# Altium schematic symbol library SCH - DRIVER - LED - TI TLC5951_RHA_40.SchLib: 1 symbol
Pins are listed as number, name and electrical type; pins without a type are passive.

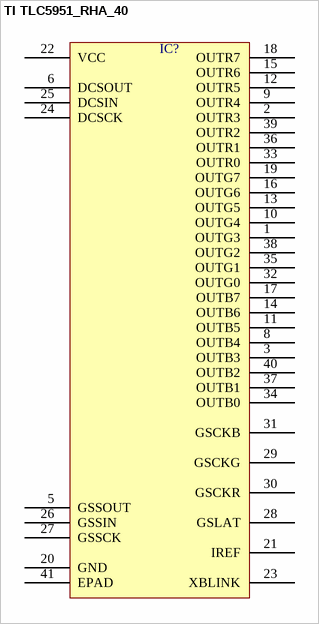
[diagram p0: symbol TI TLC5951_RHA_40]

## TI TLC5951_RHA_40
designator IC?  (value not drawn)
pins: 1 OUTG3, 2 OUTR3, 3 OUTB3, 5 GSSOUT, 6 DCSOUT, 8 OUTB4, 9 OUTR4, 10 OUTG4, 11 OUTB5, 12 OUTR5, 13 OUTG5, 14 OUTB6, 15 OUTR6, 16 OUTG6, 17 OUTB7, 18 OUTR7, 19 OUTG7, 20 GND, 21 IREF, 22 VCC, 23 XBLINK, 24 DCSCK, 25 DCSIN, 26 GSSIN, 27 GSSCK, 28 GSLAT, 29 GSCKG, 30 GSCKR, 31 GSCKB, 32 OUTG0, 33 OUTR0, 34 OUTB0, 35 OUTG1, 36 OUTR1, 37 OUTB1, 38 OUTG2, 39 OUTR2, 40 OUTB2, 41 EPAD